# Altium footprint library ANT.PcbLib: 8 footprints
Each footprint in its own frame and in the unit in brackets; x right, y up, seen from the top. Pads: shape width x height; smd on the part's side, far side on the other; paste and mask are expansions set on the pad; w line width, h text height; cw(c..) or ccw(c..) is an arc to the next point about the centre after c.
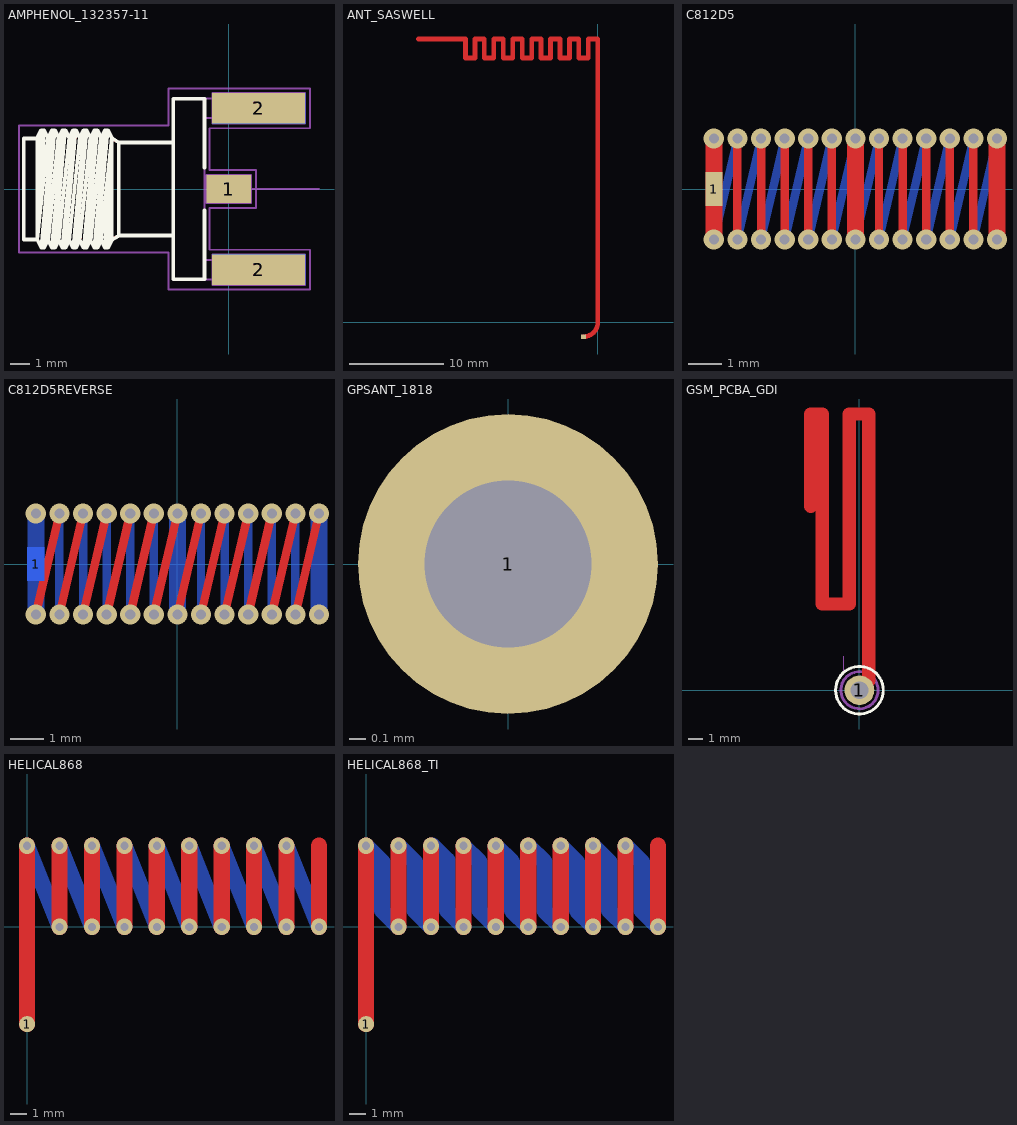
[diagram p0: the footprints below, top view; thin cyan lines are the x and y axes]

## AMPHENOL_132357-11 [mm] "SMA End Launch Jack for 1.58mm PCB, 50 Ohm, Flat Tab Contact"
height 7.92
pads (5):
  rect 2.35x1.5 smd: 1(0,0)
  rect 4.9x1.6 smd: 2(1.575,-4.25) 2(1.575,4.25)
  rect 4.9x1.6 smd far side: 2(1.575,-4.25) 2(1.575,4.25)
Top Overlay:
  lines w0.2: -10.09,2.665 -10.805,2.665 -10.805,-2.665 -10.09,-2.665 ; -6.17,-2.665 -5.795,-2.453 ; -2.925,-2.453 -5.795,-2.453 ; -2.925,2.447 -5.795,2.447 ; -1.275,-1.137 -1.275,-4.76 -2.925,-4.76 -2.925,4.76 -1.275,4.76 -1.275,1.137 ; -10.09,-2.665 -9.879,3.094 ; -10.09,-2.665 -9.741,3.094 ; -10.09,-2.665 -9.53,2.715 ; -10.09,-2.665 -9.879,-3.094 ; -10.09,-2.665 -10.09,2.715 -9.879,3.094 ; -9.879,-3.094 -9.319,3.094 ; -9.879,-3.094 -9.741,-3.094 ; -9.879,3.094 -9.741,3.094 ; -9.741,-3.094 -9.181,3.094 ; -9.741,-3.094 -9.53,-2.715 ; -9.741,3.094 -9.53,2.715 ; -9.53,-2.715 -8.97,2.715 ; -9.53,-2.715 -9.319,-3.094 ; -9.53,2.715 -9.319,3.094 ; -9.319,-3.094 -8.759,3.094 ; -9.319,-3.094 -9.181,-3.094 ; -9.319,3.094 -9.181,3.094 ; -9.181,-3.094 -8.621,3.094 ; -9.181,-3.094 -8.97,-2.715 ; -9.181,3.094 -8.97,2.715 ; -8.97,-2.715 -8.41,2.715 ; -8.97,-2.715 -8.759,-3.094 ; -8.97,2.715 -8.759,3.094 ; -8.759,-3.094 -8.199,3.094 ; -8.759,-3.094 -8.621,-3.094 ; -8.759,3.094 -8.621,3.094 ; -8.621,-3.094 -8.061,3.094 ; -8.621,-3.094 -8.41,-2.715 ; -8.621,3.094 -8.41,2.715 ; -8.41,-2.715 -7.85,2.715 ; -8.41,-2.715 -8.199,-3.094 ; -8.41,2.715 -8.199,3.094 ; -8.199,-3.094 -7.639,3.094 ; -8.199,-3.094 -8.061,-3.094 ; -8.199,3.094 -8.061,3.094 ; -8.061,-3.094 -7.501,3.094 ; -8.061,-3.094 -7.85,-2.715 ; -8.061,3.094 -7.85,2.715 ; -7.85,-2.715 -7.29,2.715 ; -7.85,-2.715 -7.639,-3.094 ; -7.85,2.715 -7.639,3.094 ; -7.639,-3.094 -7.079,3.094 ; -7.639,-3.094 -7.501,-3.094 ; -7.639,3.094 -7.501,3.094 ; -7.501,-3.094 -6.941,3.094 ; -7.501,-3.094 -7.29,-2.715 ; -7.501,3.094 -7.29,2.715 ; -7.29,-2.715 -6.73,2.715 ; -7.29,-2.715 -7.079,-3.094 ; -7.29,2.715 -7.079,3.094 ; -7.079,-3.094 -6.519,3.094 ; -7.079,-3.094 -6.941,-3.094 ; -7.079,3.094 -6.941,3.094 ; -6.941,-3.094 -6.381,3.094 ; -6.941,-3.094 -6.73,-2.715 ; -6.941,3.094 -6.73,2.715 ; -6.73,-2.715 -6.17,2.713 ; -6.73,-2.715 -6.519,-3.094 ; -6.73,2.715 -6.519,3.094 ; -6.519,-3.094 -6.17,2.713 ; -6.519,-3.094 -6.381,-3.094 ; -6.519,3.094 -6.381,3.094 ; -6.381,-3.094 -6.17,2.665 -5.795,2.447 ; -6.381,-3.094 -6.17,-2.715 -6.17,2.713 ; -6.381,3.094 -6.17,2.713 ; -5.795,-2.453 -5.795,2.447
Mechanical 8:
  lines w0.1: -0.5,0 0,0 ; 0,-0.5 0,0 ; 0,0.5 0,0 ; 0.5,0 0,0 ; 1.075,-4.25 1.575,-4.25 ; 1.075,4.25 1.575,4.25 ; 1.575,-4.75 1.575,-4.25 ; 1.575,-3.75 1.575,-4.25 ; 1.575,3.75 1.575,4.25 ; 1.575,4.75 1.575,4.25 ; 2.075,-4.25 1.575,-4.25 ; 2.075,4.25 1.575,4.25 ; -1.175,-0.75 1.175,-0.75 1.175,0.75 -1.175,0.75 -1.175,-0.75 ; -0.875,-5.05 -0.875,-3.45 4.025,-3.45 4.025,-5.05 -0.875,-5.05 ; -0.875,3.45 -0.875,5.05 4.025,5.05 4.025,3.45 -0.875,3.45
Mechanical 14:
  lines w0.1: -10.09,2.665 -10.805,2.665 -10.805,-2.665 -10.09,-2.665 ; -6.17,-2.665 -5.795,-2.453 ; -2.925,-2.453 -5.795,-2.453 ; -2.925,2.447 -5.795,2.447 ; -1.275,-4.76 -1.275,0 ; -1.275,-3.74 3.475,-3.74 3.475,-4.76 -2.925,-4.76 -2.925,4.76 3.475,4.76 3.475,3.74 -1.275,3.74 ; -1.275,-0.251 0.635,-0.251 0.635,0.251 -1.275,0.251 ; -1.275,4.76 -1.275,0 ; 4.75,0 -1.275,0 ; -10.09,-2.665 -9.879,3.094 ; -10.09,-2.665 -9.741,3.094 ; -10.09,-2.665 -9.53,2.715 ; -10.09,-2.665 -9.879,-3.094 ; -10.09,-2.665 -10.09,2.715 -9.879,3.094 ; -9.879,-3.094 -9.319,3.094 ; -9.879,-3.094 -9.741,-3.094 ; -9.879,3.094 -9.741,3.094 ; -9.741,-3.094 -9.181,3.094 ; -9.741,-3.094 -9.53,-2.715 ; -9.741,3.094 -9.53,2.715 ; -9.53,-2.715 -8.97,2.715 ; -9.53,-2.715 -9.319,-3.094 ; -9.53,2.715 -9.319,3.094 ; -9.319,-3.094 -8.759,3.094 ; -9.319,-3.094 -9.181,-3.094 ; -9.319,3.094 -9.181,3.094 ; -9.181,-3.094 -8.621,3.094 ; -9.181,-3.094 -8.97,-2.715 ; -9.181,3.094 -8.97,2.715 ; -8.97,-2.715 -8.41,2.715 ; -8.97,-2.715 -8.759,-3.094 ; -8.97,2.715 -8.759,3.094 ; -8.759,-3.094 -8.199,3.094 ; -8.759,-3.094 -8.621,-3.094 ; -8.759,3.094 -8.621,3.094 ; -8.621,-3.094 -8.061,3.094 ; -8.621,-3.094 -8.41,-2.715 ; -8.621,3.094 -8.41,2.715 ; -8.41,-2.715 -7.85,2.715 ; -8.41,-2.715 -8.199,-3.094 ; -8.41,2.715 -8.199,3.094 ; -8.199,-3.094 -7.639,3.094 ; -8.199,-3.094 -8.061,-3.094 ; -8.199,3.094 -8.061,3.094 ; -8.061,-3.094 -7.501,3.094 ; -8.061,-3.094 -7.85,-2.715 ; -8.061,3.094 -7.85,2.715 ; -7.85,-2.715 -7.29,2.715 ; -7.85,-2.715 -7.639,-3.094 ; -7.85,2.715 -7.639,3.094 ; -7.639,-3.094 -7.079,3.094 ; -7.639,-3.094 -7.501,-3.094 ; -7.639,3.094 -7.501,3.094 ; -7.501,-3.094 -6.941,3.094 ; -7.501,-3.094 -7.29,-2.715 ; -7.501,3.094 -7.29,2.715 ; -7.29,-2.715 -6.73,2.715 ; -7.29,-2.715 -7.079,-3.094 ; -7.29,2.715 -7.079,3.094 ; -7.079,-3.094 -6.519,3.094 ; -7.079,-3.094 -6.941,-3.094 ; -7.079,3.094 -6.941,3.094 ; -6.941,-3.094 -6.381,3.094 ; -6.941,-3.094 -6.73,-2.715 ; -6.941,3.094 -6.73,2.715 ; -6.73,-2.715 -6.17,2.713 ; -6.73,-2.715 -6.519,-3.094 ; -6.73,2.715 -6.519,3.094 ; -6.519,-3.094 -6.17,2.713 ; -6.519,-3.094 -6.381,-3.094 ; -6.519,3.094 -6.381,3.094 ; -6.381,-3.094 -6.17,2.665 -5.795,2.447 ; -6.381,-3.094 -6.17,-2.715 -6.17,2.713 ; -6.381,3.094 -6.17,2.713 ; -5.795,-2.453 -5.795,2.447
Mechanical 15:
  lines w0.1: -11.055,-3.344 -11.055,3.344 -3.175,3.344 -3.175,5.3 4.275,5.3 4.275,3.2 -1.025,3.2 -1.025,1 1.425,1 1.425,-1 -1.025,-1 -1.025,-3.2 4.275,-3.2 4.275,-5.3 -3.175,-5.3 -3.175,-3.344 -11.055,-3.344
3D body "AMPHENOL_132357-11.stp": height 4.08, standoff -3.84, extent -10.805,-4.76 3.475,4.76

## ANT_SASWELL [mm]
pads (1):
  rect 0.5x0.5 smd: 1(-1.5,-1.5)
Top Layer:
  lines w0.5: -19,30 -14,30 -14,28 -13,28 -13,30 -12,30 -12,28 -11,28 -11,30 -10,30 -10,28 -9,28 -9,30 -8,30 -8,28 -7,28 -7,30 -6,30 -6,28 -5,28 -5,30 -4,30 -4,28 -3,28 -3,30 -2,30 -2,28 -1,28 -1,30 0,30 0,0 cw(c-1.5,0) -1.5,-1.5

## C812D5 [mm]
pads (1):
  rect 0.5x1 smd: 1(-4.2,0)
via 4.2,-1.5 diameter 0.6 hole 0.3
via -4.2,-1.5 diameter 0.6 hole 0.3
via -3.5,-1.5 diameter 0.6 hole 0.3
via -2.8,-1.5 diameter 0.6 hole 0.3
via -2.1,-1.5 diameter 0.6 hole 0.3
via -1.4,-1.5 diameter 0.6 hole 0.3
via -0.7,-1.5 diameter 0.6 hole 0.3
via 0,-1.5 diameter 0.6 hole 0.3
via 0.7,-1.5 diameter 0.6 hole 0.3
via 1.4,-1.5 diameter 0.6 hole 0.3
via 2.1,-1.5 diameter 0.6 hole 0.3
via 2.8,-1.5 diameter 0.6 hole 0.3
via 3.5,-1.5 diameter 0.6 hole 0.3
via -4.2,1.5 diameter 0.6 hole 0.3
via -3.5,1.5 diameter 0.6 hole 0.3
via -2.8,1.5 diameter 0.6 hole 0.3
via -2.1,1.5 diameter 0.6 hole 0.3
via -1.4,1.5 diameter 0.6 hole 0.3
via -0.7,1.5 diameter 0.6 hole 0.3
via 0,1.5 diameter 0.6 hole 0.3
via 0.7,1.5 diameter 0.6 hole 0.3
via 1.4,1.5 diameter 0.6 hole 0.3
via 2.1,1.5 diameter 0.6 hole 0.3
via 2.8,1.5 diameter 0.6 hole 0.3
via 3.5,1.5 diameter 0.6 hole 0.3
via 4.2,1.5 diameter 0.6 hole 0.3
Top Layer:
  lines w0.25: -3.5,-1.5 -3.5,1.5 ; -2.8,-1.5 -2.8,1.5 ; -2.1,-1.5 -2.1,1.5 ; -1.4,-1.5 -1.4,1.5 ; -0.7,-1.5 -0.7,1.5 ; 0.7,-1.5 0.7,1.5 ; 1.4,-1.5 1.4,1.5 ; 2.1,-1.5 2.1,1.5 ; 2.8,-1.5 2.8,1.5 ; 3.5,-1.5 3.5,1.5
  lines w0.5: -4.2,-1.5 -4.2,1.5 ; 0,-1.5 0,1.5 ; 4.2,-1.5 4.2,1.5
Bottom Layer:
  lines w0.25: -4.2,-1.5 -3.5,1.5 ; -3.5,-1.5 -2.8,1.5 ; -2.8,-1.5 -2.1,1.5 ; -2.1,-1.5 -1.4,1.5 ; -1.4,-1.5 -0.7,1.5 ; -0.7,-1.5 0,1.5 ; 0,-1.5 0.7,1.5 ; 0.7,-1.5 1.4,1.5 ; 1.4,-1.5 2.1,1.5 ; 2.1,-1.5 2.8,1.5 ; 2.8,-1.5 3.5,1.5 ; 3.5,-1.5 4.2,1.5
3D body: height 1.6, standoff -0.4, extent -5,-1.8 5,1.8

## C812D5REVERSE [mm]
pads (1):
  rect 0.5x1 smd far side: 1(-4.2,0)
via 4.2,-1.5 diameter 0.6 hole 0.3
via -4.2,-1.5 diameter 0.6 hole 0.3
via -3.5,-1.5 diameter 0.6 hole 0.3
via -2.8,-1.5 diameter 0.6 hole 0.3
via -2.1,-1.5 diameter 0.6 hole 0.3
via -1.4,-1.5 diameter 0.6 hole 0.3
via -0.7,-1.5 diameter 0.6 hole 0.3
via 0,-1.5 diameter 0.6 hole 0.3
via 0.7,-1.5 diameter 0.6 hole 0.3
via 1.4,-1.5 diameter 0.6 hole 0.3
via 2.1,-1.5 diameter 0.6 hole 0.3
via 2.8,-1.5 diameter 0.6 hole 0.3
via 3.5,-1.5 diameter 0.6 hole 0.3
via -4.2,1.5 diameter 0.6 hole 0.3
via -3.5,1.5 diameter 0.6 hole 0.3
via -2.8,1.5 diameter 0.6 hole 0.3
via -2.1,1.5 diameter 0.6 hole 0.3
via -1.4,1.5 diameter 0.6 hole 0.3
via -0.7,1.5 diameter 0.6 hole 0.3
via 0,1.5 diameter 0.6 hole 0.3
via 0.7,1.5 diameter 0.6 hole 0.3
via 1.4,1.5 diameter 0.6 hole 0.3
via 2.1,1.5 diameter 0.6 hole 0.3
via 2.8,1.5 diameter 0.6 hole 0.3
via 3.5,1.5 diameter 0.6 hole 0.3
via 4.2,1.5 diameter 0.6 hole 0.3
Top Layer:
  lines w0.25: -4.2,-1.5 -3.5,1.5 ; -3.5,-1.5 -2.8,1.5 ; -2.8,-1.5 -2.1,1.5 ; -2.1,-1.5 -1.4,1.5 ; -1.4,-1.5 -0.7,1.5 ; -0.7,-1.5 0,1.5 ; 0,-1.5 0.7,1.5 ; 0.7,-1.5 1.4,1.5 ; 1.4,-1.5 2.1,1.5 ; 2.1,-1.5 2.8,1.5 ; 2.8,-1.5 3.5,1.5 ; 3.5,-1.5 4.2,1.5
Bottom Layer:
  lines w0.25: -3.5,-1.5 -3.5,1.5 ; -2.8,-1.5 -2.8,1.5 ; -2.1,-1.5 -2.1,1.5 ; -1.4,-1.5 -1.4,1.5 ; -0.7,-1.5 -0.7,1.5 ; 0.7,-1.5 0.7,1.5 ; 1.4,-1.5 1.4,1.5 ; 2.1,-1.5 2.1,1.5 ; 2.8,-1.5 2.8,1.5 ; 3.5,-1.5 3.5,1.5
  lines w0.5: -4.2,-1.5 -4.2,1.5 ; 0,-1.5 0,1.5 ; 4.2,-1.5 4.2,1.5
3D body: height 1.6, standoff -0.4, extent -5,-1.8 5,1.8

## GPSANT_1818 [mm]
pads (1):
  round 1.8 hole 1: 1(0,0)
3D body "YDRA-A18-1575.step": height 5, standoff -3, extent -9,-10.1 9,7.9

## GSM_PCBA_GDI [mm]
pads (1):
  round 2 hole 1.2 mask+0.102: 1(0,0)
Top Layer:
  lines w0.9: -3.275,12.375 -3.275,18.575 -2.5,18.575 -2.5,12.718 -2.6,12.618 ; -2.5,8.918 -2.5,7.932 -2.5,5.8 -0.675,5.8 -0.675,18.575 0.625,18.575 0.625,0.625 0,0 ; -2.5,8.5 -2.5,12.5
Top Overlay:
  circle w0.2: c0,0 r1.6
Mechanical 1:
  lines w0: -1.075,2.3 -1.05,2.275 -1.05,1.075
Mechanical 13:
  circle w0.1: c-0.025,-0.05 r0.645
  circle w0.2: c0,0 r1.25
3D body: height 0.01, standoff 0, extent -1.245,-1.247 1.245,1.248

## HELICAL868 [mm]
pads (1):
  round 1 smd: 1(0,-6)
via 0,5 diameter 1 hole 0.5
via 2,5 diameter 1 hole 0.5
via 4,5 diameter 1 hole 0.5
via 6,5 diameter 1 hole 0.5
via 8,5 diameter 1 hole 0.5
via 10,5 diameter 1 hole 0.5
via 12,5 diameter 1 hole 0.5
via 14,5 diameter 1 hole 0.5
via 16,5 diameter 1 hole 0.5
via 2,0 diameter 1 hole 0.5
via 4,0 diameter 1 hole 0.5
via 6,0 diameter 1 hole 0.5
via 8,0 diameter 1 hole 0.5
via 10,0 diameter 1 hole 0.5
via 12,0 diameter 1 hole 0.5
via 14,0 diameter 1 hole 0.5
via 16,0 diameter 1 hole 0.5
via 18,0 diameter 1 hole 0.5
Top Layer:
  lines w1: 0,-6 0,5 ; 2,0 2,5 ; 4,0 4,5 ; 6,0 6,5 ; 8,0 8,5 ; 10,0 10,5 ; 12,0 12,5 ; 14,0 14,5 ; 16,0 16,5 ; 18,0 18,5
Bottom Layer:
  lines w1: 0,5 2,0 ; 2,5 4,0 ; 4,5 6,0 ; 6,5 8,0 ; 8,5 10,0 ; 10,5 12,0 ; 12,5 14,0 ; 14,5 16,0 ; 16,5 18,0

## HELICAL868_TI [mm]
pads (1):
  round 1 smd: 1(0,-6)
via 0,5 diameter 1 hole 0.5
via 2,5 diameter 1 hole 0.5
via 4,5 diameter 1 hole 0.5
via 6,5 diameter 1 hole 0.5
via 8,5 diameter 1 hole 0.5
via 10,5 diameter 1 hole 0.5
via 12,5 diameter 1 hole 0.5
via 14,5 diameter 1 hole 0.5
via 16,5 diameter 1 hole 0.5
via 2,0 diameter 1 hole 0.5
via 4,0 diameter 1 hole 0.5
via 6,0 diameter 1 hole 0.5
via 8,0 diameter 1 hole 0.5
via 10,0 diameter 1 hole 0.5
via 12,0 diameter 1 hole 0.5
via 14,0 diameter 1 hole 0.5
via 16,0 diameter 1 hole 0.5
via 18,0 diameter 1 hole 0.5
Top Layer:
  lines w1: 0,-6 0,5 ; 2,0 2,5 ; 4,0 4,5 ; 6,0 6,5 ; 8,0 8,5 ; 10,0 10,5 ; 12,0 12,5 ; 14,0 14,5 ; 16,0 16,5 ; 18,0 18,5
Bottom Layer:
  lines w1: 0,5 1,4 1,1 2,0 ; 4,0 3,1 3,4 2,5 ; 4,5 4.1,5 5,4.1 5,1 6,0 ; 6,5 7,4 7,1 8,0 ; 8,5 9,4 9,1 10,0 ; 10,5 11,4 11,1 12,0 ; 14,0 13,1 13,4 12,5 ; 14,5 15,4 15,1 16,0 ; 18,0 17,1 17,4 16,5 ; 2,5 2,5 ; 12,5 12,5 ; 16,5 16,5